# Altium schematic symbol library 62000611121.SchLib: 1 symbol
Pins are listed as number, name and electrical type; pins without a type are passive.

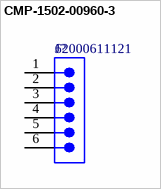
[diagram p0: symbol CMP-1502-00960-3]

## CMP-1502-00960-3
designator J?, comment 62000611121
NexarPartId: 61924782; Operating Supply Voltage: 200V; Contact Resistance: 20mΩ; Current Rating: 2A; Gender: Male; Orientation: Vertical; RoHS: Non-Compliant; Number of Pins: 6; Lead Pitch: 2mm
footprint 62000611121 (Pin Header, pitch 2.00 mm, THT, Vertical, single row, 6p)
pins: 1, 2, 3, 4, 5, 6